# EAGLE library part PIC18F4550_DIP (library usevolt)
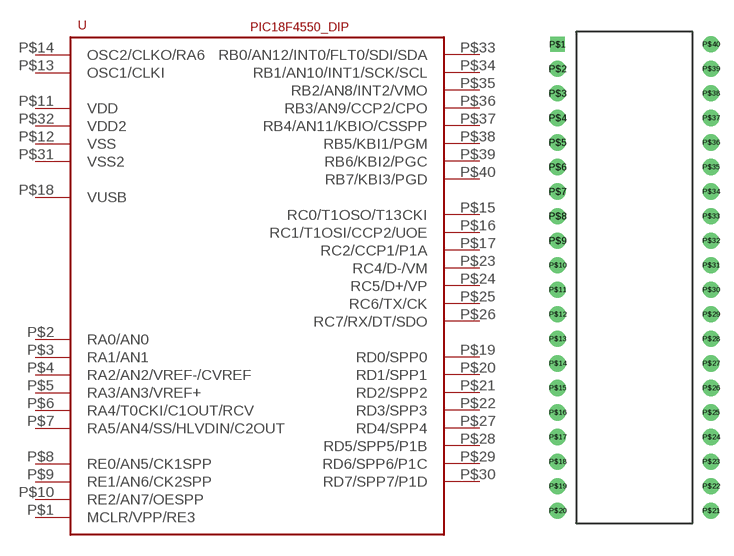
[diagram p10: symbol with the pads of DIP40; footprint DIP40]

Designator prefix U

## PIC18F4550_DIP  [DIP40]
P$1  MCLR/VPP/RE3
P$2  RA0/AN0
P$3  RA1/AN1
P$4  RA2/AN2/VREF-/CVREF
P$5  RA3/AN3/VREF+
P$6  RA4/T0CKI/C1OUT/RCV
P$7  RA5/AN4/SS/HLVDIN/C2OUT
P$8  RE0/AN5/CK1SPP
P$9  RE1/AN6/CK2SPP
P$10  RE2/AN7/OESPP
P$11  VDD
P$12  VSS
P$13  OSC1/CLKI
P$14  OSC2/CLKO/RA6
P$15  RC0/T1OSO/T13CKI
P$16  RC1/T1OSI/CCP2/UOE
P$17  RC2/CCP1/P1A
P$18  VUSB
P$19  RD0/SPP0
P$20  RD1/SPP1
P$21  RD2/SPP2
P$22  RD3/SPP3
P$23  RC4/D-/VM
P$24  RC5/D+/VP
P$25  RC6/TX/CK
P$26  RC7/RX/DT/SDO
P$27  RD4/SPP4
P$28  RD5/SPP5/P1B
P$29  RD6/SPP6/P1C
P$30  RD7/SPP7/P1D
P$31  VSS2
P$32  VDD2
P$33  RB0/AN12/INT0/FLT0/SDI/SDA
P$34  RB1/AN10/INT1/SCK/SCL
P$35  RB2/AN8/INT2/VMO
P$36  RB3/AN9/CCP2/CPO
P$37  RB4/AN11/KBIO/CSSPP
P$38  RB5/KBI1/PGM
P$39  RB6/KBI2/PGC
P$40  RB7/KBI3/PGD

## Footprint DIP40 (pad centres in mm)
drill 1.016 square: P$1 -6.35,22.86
drill 1.016 pad 1.676: P$2 -6.35,20.32; P$3 -6.35,17.78; P$4 -6.35,15.24; P$5 -6.35,12.7; P$6 -6.35,10.16; P$7 -6.35,7.62; P$8 -6.35,5.08; P$9 -6.35,2.54; P$10 -6.35,0; P$11 -6.35,-2.54; P$12 -6.35,-5.08; P$13 -6.35,-7.62; P$14 -6.35,-10.16; P$15 -6.35,-12.7; P$16 -6.35,-15.24; P$17 -6.35,-17.78; P$18 -6.35,-20.32; P$19 -6.35,-22.86; P$20 -6.35,-25.4; P$21 9.525,-25.4; P$22 9.525,-22.86; P$23 9.525,-20.32; P$24 9.525,-17.78; P$25 9.525,-15.24; P$26 9.525,-12.7; P$27 9.525,-10.16; P$28 9.525,-7.62; P$29 9.525,-5.08; P$30 9.525,-2.54; P$31 9.525,0; P$32 9.525,2.54; P$33 9.525,5.08; P$34 9.525,7.62; P$35 9.525,10.16; P$36 9.525,12.7; P$37 9.525,15.24; P$38 9.525,17.78; P$39 9.525,20.32; P$40 9.525,22.86